# Altium footprint library PcbLib1.PcbLib: 4 footprints
Each footprint in its own frame and in the unit in brackets; x right, y up, seen from the top. Pads: shape width x height; smd on the part's side, far side on the other; paste and mask are expansions set on the pad; w line width, h text height; cw(c..) or ccw(c..) is an arc to the next point about the centre after c.
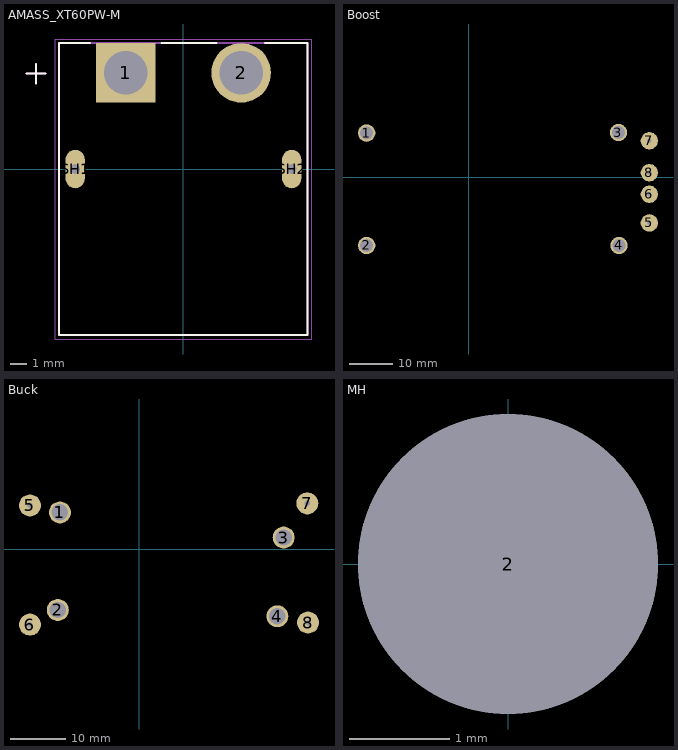
[diagram p0: the footprints below, top view; thin cyan lines are the x and y axes]

## AMASS_XT60PW-M [mm]
height 8.4
pads (4):
  rect 3.716x3.716 / inner round 3.716 / far side rect 3.716x3.716 hole 2.7 mask+0.102: 1(-3.6,6)
  round 3.716 hole 2.7 mask+0.102: 2(3.6,6)
  oval 1.2x2.4 hole 0.6 square mask+0.102: SH1(-6.75,0) SH2(6.75,0)
Top Overlay:
  lines w0.127: -9.8,5.95 -8.6,5.95 ; -9.2,5.35 -9.2,6.55 ; -5.828,7.85 -7.75,7.85 -7.75,-10.35 7.75,-10.35 7.75,7.85 5.078,7.85 ; -1.372,7.85 2.072,7.85
Mechanical 13:
  lines w0.127: -9.8,5.95 -8.6,5.95 ; -9.2,5.35 -9.2,6.55 ; -7.75,-10.35 -7.75,7.85 7.75,7.85 7.75,-10.35 -7.75,-10.35
Mechanical 15:
  lines w0.05: -8,-10.6 -8,8.11 8,8.11 8,-10.6 -8,-10.6
3D body "step_temp.STEP": height 8.4, standoff -2.55, extent -7.75,-10.35 7.75,7.85

## Boost [mm]
pads (8):
  round 4 hole 3: 1(-23.495,10.16) 2(-23.495,-15.748) 3(34.544,10.287) 4(34.671,-15.748)
  round 4 hole 1: 5(41.656,-10.541) 6(41.656,-3.937) 7(41.656,8.382) 8(41.656,1.016)
3D body "DC-DC StepUP 10-35V simple.SLDPRT": height 22, standoff 0, extent -26.912,-26.294 38.088,20.706

## Buck [mm]
pads (8):
  round 4 hole 3: 1(-14.478,6.731) 2(-14.859,-11.049) 3(26.289,2.159) 4(25.146,-12.192)
  round 4 hole 1: 5(-19.939,8.001) 6(-19.939,-13.716) 7(30.607,8.382) 8(30.734,-13.335)
3D body "XL4015_MODELO_PISTAS.step": height 14.59, standoff -0.17, extent -21.608,-14.806 32.392,9.208

## MH [mm]
pads (1):
  round 3 hole 3: 2(0,0)